# Altium schematic symbol library MA5332MS.schlib: 1 symbol
Pins are listed as number, name and electrical type; pins without a type are passive.

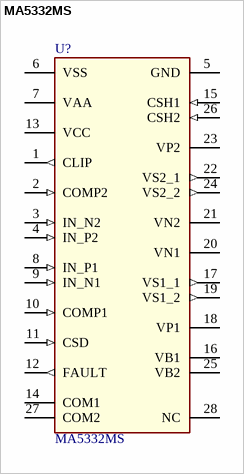
[diagram p0: symbol MA5332MS]

## MA5332MS
designator U?
200W Stereo, Integrated Class D Amplifier; Manufacturer: Infineon Technologies; Manufacturer Order Number: MA5332MS; PackageReference: PG-IQFN-42-1
pins: 1 CLIP (out) "Clipping detection output, open drain, referenced to GND", 2 COMP2 (in) "CH2 PWM comparator input", 3 IN_N2 (in) "CH2 Analog inverting input", 4 IN_P2 (in) "CH2 Analog non-inverting input", 5 GND (power) "GND for internal shunt zener diodes to VAA and VSS, a reference to FAULT and CLIP outputs", 6 VSS (power) "Floating input negative supply", 7 VAA (power) "Floating input positive supply", 8 IN_P1 (in) "CH1 Analog non-inverting input", 9 IN_N1 (in) "CH1 Analog inverting input", 10 COMP1 (in) "CH1 PWM comparator input", 11 CSD (in) "Shutdown timing capacitor / shutdown input", 12 FAULT (out) "Fault reporting output, open drain, referenced to GND", 13 VCC (power) "Low side supply", 14 COM1 "Low side supply return, internally connected to pin 27", 15 CSH1 (in) "CH1 High side over current sensing input, referenced to VS1", 16 VB1 (power) "CH1 High side floating supply", 17 VS1_1 (out) "CH1 PWM output, internally connected to pin 19", 18 VP1 (power) "CH1 Positive power supply", 19 VS1_2 (out) "CH1 PWM output", 20 VN1 (power) "CH1 Negative power supply, connect to COM externally", 21 VN2 (power) "CH2 Negative power supply, connect to COM externally", 22 VS2_1 (out) "CH2 PWM output, internally connected to pin 24", 23 VP2 (power) "CH2 Positive power supply", 24 VS2_2 (out) "CH2 PWM output", 25 VB2 (power) "CH2 High side floating supply", 26 CSH2 (in) "CH2 High side over current sensing input, referenced to VS2", 27 COM2 "Low side supply return, internally connected to pin 14", 28 NC